# Altium schematic symbol library SWARMUS_LIB.SchLib: 70 symbols (part 1 of 2)
Pins are listed as number, name and electrical type; pins without a type are passive.

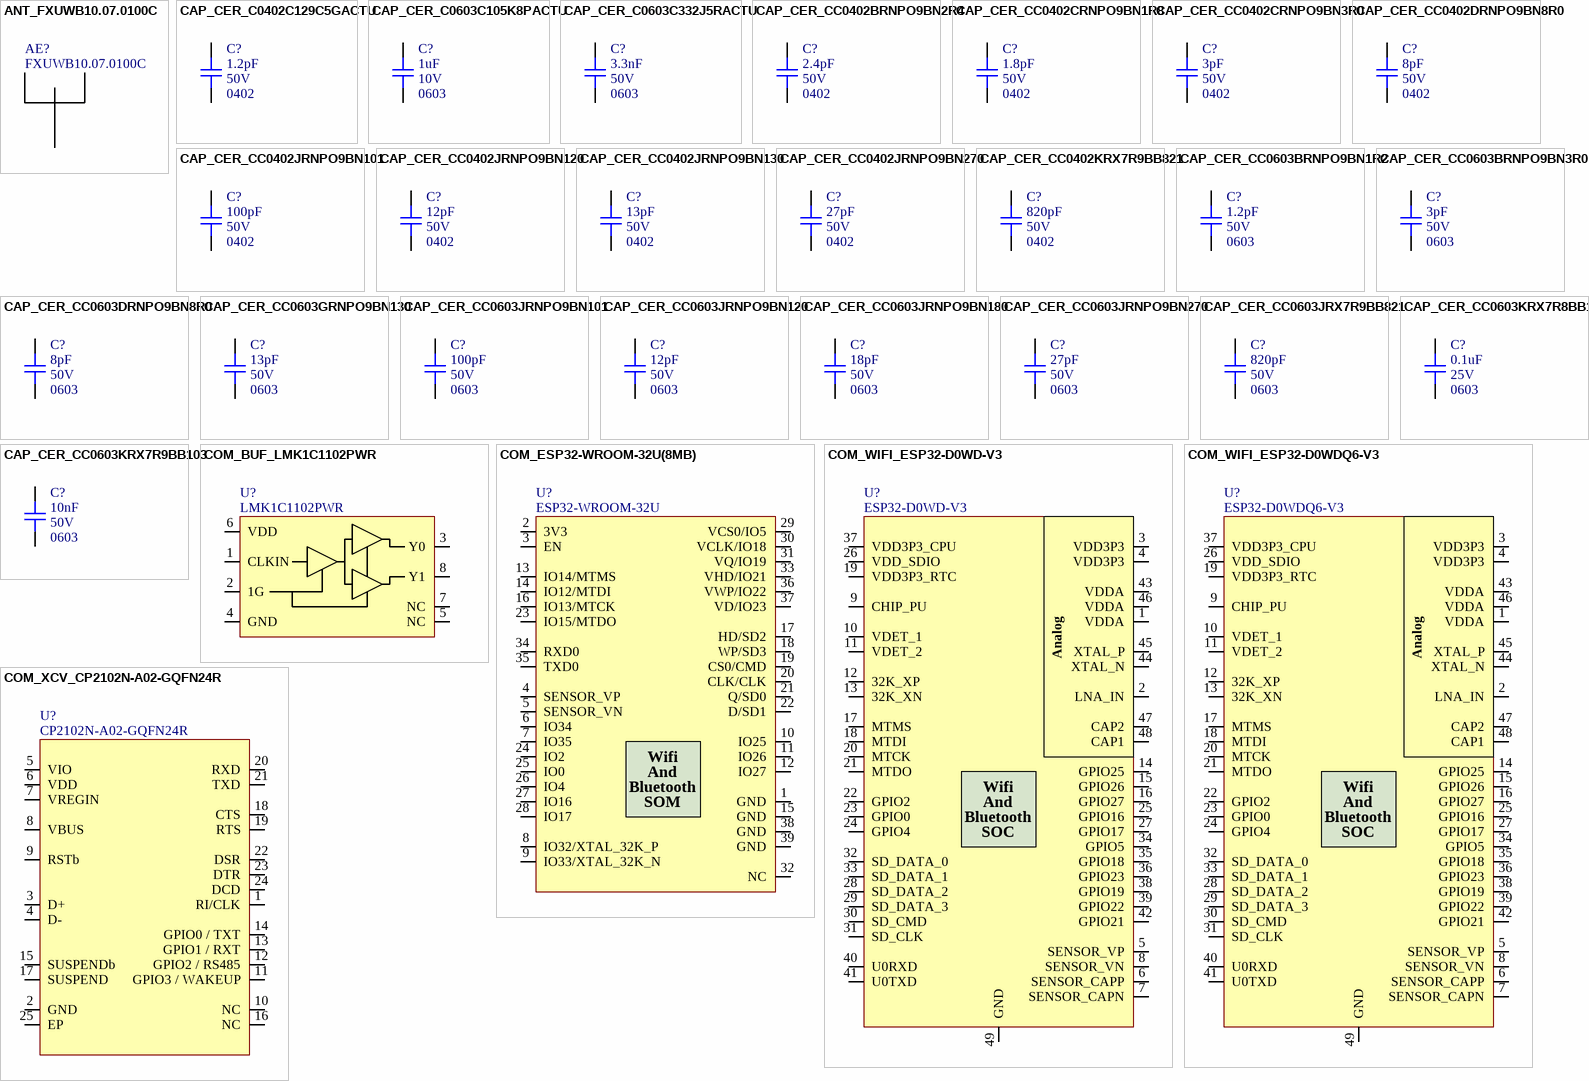
[diagram p0: symbols ANT_FXUWB10.07.0100C to COM_XCV_CP2102N-A02-GQFN24R]

## ANT_FXUWB10.07.0100C
designator AE?, comment FXUWB10.07.0100C
External antenna - UWB - UMCC plug; Value: 3.0-10.3GHz; GRAMS Lib Spec: 2.8; HelpURL: http://cdn.taoglas.com/datasheets/FXUWB10.07.0100C.pdf; CreatedBy/Date: Philippe Arsenault; Temperature: -40°C to 85°C; Package: 50 ohm; Assembly Type: UMCC plug; Part Number #1: FXUWB10.07.0100C; Supplier 1: Digi-Key; Supplier Part Number 1: 931-1523-ND

## CAP_CER_C0402C129C5GACTU
designator C?, comment value 1.2pF  Package: 0402  Voltage Rating: 50V  (hidden comment: C0402C129C5GACTU)
CAP - CER 1.2pF 50V ±0.25pF C0G, NP0 - 0402; Manufacturer #1: KEMET; GRAMS Lib Spec: 2.8; Magnetic Material: Unknown; Polarized: NO; Assembly Type: SMD; CreatedBy/Date: Philippe Arsenault/ 2020-07-24; Current Rating: *; HelpURL: https://content.kemet.com/datasheets/KEM_C1003_C0G_SMD.pdf; Manufacturer #2: *; Note: *; Part Number #1: C0402C129C5GACTU; Part Number #2: *; Power Max: *; Temperature: -55°C ~ 125°C; Tolerance: ±0.25pF; VerifiedBy: Louis-Daniel Gaulin / 2020-07-29; Cryo: UNKNOWN; Supplier 1: Digi-Key; Supplier Part Number 1: 399-1001-1-ND
footprint CAP_CER_0402 (Ceramic Capacitor - 0402)
pins: 1, 2

## CAP_CER_C0603C105K8PACTU
designator C?, comment value 1uF  Package: 0603  Voltage Rating: 10V  (hidden comment: C0603C105K8PACTU)
CAP - CER 1uF 10V 10% X5R - 0603; Manufacturer #1: KEMET; GRAMS Lib Spec: 2.8; Magnetic Material: Unknown; Polarized: NO; Tolerance: 10%; Current Rating: *; Power Max: *; HelpURL: https://content.kemet.com/datasheets/KEM_C1006_X5R_SMD.pdf; CreatedBy/Date: Hubert Dube - 21/07/20; VerifiedBy: Louis-Daniel Gaulin - 21/07/20; Temperature: -55°C ~ 85°C; Manufacturer #2: *; Assembly Type: SMD; Part Number #2: *; Part Number #1: C0603C105K8PACTU; Cryo: UNKNOWN; Supplier 1: Digi-Key; Supplier Part Number 1: 399-3118-1-ND
footprint CAP_CER_0603 (Ceramic Capacitor - 0603)
pins: 1, 2

## CAP_CER_C0603C332J5RACTU
designator C?, comment value 3.3nF  Package: 0603  Voltage Rating: 50V  (hidden comment: C0603C332J5RACTU)
CAP - CER 3.3nF 50V 5% X7R - 0603; Manufacturer #1: KEMET; GRAMS Lib Spec: 2.8; Magnetic Material: Unknown; Polarized: NO; Tolerance: 5%; Current Rating: *; Power Max: *; HelpURL: http://www.farnell.com/datasheets/2745899.pdf?src-supplier=Newark; CreatedBy/Date: Hubert Dube - 21/07/20; VerifiedBy: Louis-Daniel Gaulin - 21/07/20; Temperature: -55°C ~ 125°C; Manufacturer #2: *; Assembly Type: SMD; Part Number #2: *; Part Number #1: C0603C332J5RACTU; Cryo: UNKNOWN; Supplier 1: Digi-Key; Supplier Part Number 1: 399-7901-1-ND
footprint CAP_CER_0603 (Ceramic Capacitor - 0603)
pins: 1, 2

## CAP_CER_CC0402BRNPO9BN2R4
designator C?, comment value 2.4pF  Package: 0402  Voltage Rating: 50V  (hidden comment: CC0402BRNPO9BN2R4)
CAP - CER 2.4PF 50V C0G/NP0 - 0402; Manufacturer #1: Yageo; Tolerance: ±0.1pF; GRAMS Lib Spec: 2.8; Magnetic Material: Unknown; Polarized: NO; Current Rating: *; Power Max: *; HelpURL: https://www.yageo.com/upload/media/product/productsearch/datasheet/mlcc/UPY-GP_NP0_16V-to-50V_18.pdf; CreatedBy/Date: Hubert Dube - 04/10/20; VerifiedBy: Louis-Daniel Gaulin - 09/11/2020; Temperature: -55°C ~ 125°C; Manufacturer #2: *; Assembly Type: SMD; Part Number #2: *; Part Number #1: CC0402BRNPO9BN2R4; Cryo: UNKNOWN; Supplier 1: Digi-Key; Supplier Part Number 1: 311-3703-1-ND
footprint CAP_CER_0402 (Ceramic Capacitor - 0402)
pins: 1, 2

## CAP_CER_CC0402CRNPO9BN1R8
designator C?, comment value 1.8pF  Package: 0402  Voltage Rating: 50V  (hidden comment: CC0402CRNPO9BN1R8)
CAP - CER 1.8PF 50V C0G/NP0 - 0402; Manufacturer #1: Yageo; Tolerance: ±0.25pF; GRAMS Lib Spec: 2.8; Magnetic Material: Unknown; Polarized: NO; Current Rating: *; Power Max: *; HelpURL: https://www.yageo.com/upload/media/product/productsearch/datasheet/mlcc/UPY-GP_NP0_16V-to-50V_18.pdf; CreatedBy/Date: Hubert Dube - 04/10/20; VerifiedBy: Louis-Daniel Gaulin - 09/11/2020; Temperature: -55°C ~ 125°C; Manufacturer #2: *; Assembly Type: SMD; Part Number #2: *; Part Number #1: CC0402CRNPO9BN1R8; Cryo: UNKNOWN; Supplier 1: Digi-Key; Supplier Part Number 1: 311-1004-1-ND
footprint CAP_CER_0402 (Ceramic Capacitor - 0402)
pins: 1, 2

## CAP_CER_CC0402CRNPO9BN3R0
designator C?, comment value 3pF  Package: 0402  Voltage Rating: 50V  (hidden comment: CC0402CRNPO9BN3R0)
CAP - CER 3pF 50V ±0.25pF C0G, NP0 - 0402; Manufacturer #1: Yageo; GRAMS Lib Spec: 2.8; Magnetic Material: Unknown; Polarized: NO; Assembly Type: SMD; CreatedBy/Date: Philippe Arsenault/ 2020-07-24; Current Rating: *; HelpURL: https://www.yageo.com/upload/media/product/productsearch/datasheet/mlcc/UPY-GP_NP0_16V-to-50V_18.pdf; Manufacturer #2: *; Note: *; Part Number #1: CC0402CRNPO9BN3R0; Part Number #2: *; Power Max: *; Temperature: -55°C ~ 125°C; Tolerance: ±0.25pF; VerifiedBy: Louis-Daniel Gaulin / 2020-07-29; Cryo: UNKNOWN; Supplier 1: Digi-Key; Supplier Part Number 1: 311-1007-1-ND
footprint CAP_CER_0402 (Ceramic Capacitor - 0402)
pins: 1, 2

## CAP_CER_CC0402DRNPO9BN8R0
designator C?, comment value 8pF  Package: 0402  Voltage Rating: 50V  (hidden comment: CC0402DRNPO9BN8R0)
CAP - CER 8PF 50V C0G/NP0 - 0402; Manufacturer #1: Yageo; Tolerance: ±0.5pF; GRAMS Lib Spec: 2.8; Magnetic Material: Unknown; Polarized: NO; Current Rating: *; Power Max: *; HelpURL: https://www.yageo.com/upload/media/product/productsearch/datasheet/mlcc/UPY-GP_NP0_16V-to-50V_18.pdf; CreatedBy/Date: Hubert Dube - 04/10/20; VerifiedBy: Louis-Daniel Gaulin - 09/11/2020; Temperature: -55°C ~ 125°C; Manufacturer #2: *; Assembly Type: SMD; Part Number #2: *; Part Number #1: CC0402DRNPO9BN8R0; Cryo: UNKNOWN; Supplier 1: Digi-Key; Supplier Part Number 1: 311-1639-1-ND
footprint CAP_CER_0402 (Ceramic Capacitor - 0402)
pins: 1, 2

## CAP_CER_CC0402JRNPO9BN101
designator C?, comment value 100pF  Package: 0402  Voltage Rating: 50V  (hidden comment: CC0402JRNPO9BN101)
CAP - CER 100pF 50V ±5% C0G,CP0 - 0402; Manufacturer #1: Yageo; GRAMS Lib Spec: 2.8; Magnetic Material: Unknown; Polarized: NO; Assembly Type: SMD; CreatedBy/Date: Philippe Arsenault/ 2020-07-24; Current Rating: *; HelpURL: https://www.yageo.com/upload/media/product/productsearch/datasheet/mlcc/UPY-GPHC_X7R_6.3V-to-50V_18.pdf; Manufacturer #2: *; Note: *; Part Number #1: CC0402JRNPO9BN101; Part Number #2: *; Power Max: *; Temperature: -55°C ~ 125°C; Tolerance: ±5%; VerifiedBy: Louis-Daniel Gaulin / 2020-07-29; Cryo: UNKNOWN; Supplier 1: Digi-Key; Supplier Part Number 1: 311-1024-1-ND
footprint CAP_CER_0402 (Ceramic Capacitor - 0402)
pins: 1, 2

## CAP_CER_CC0402JRNPO9BN120
designator C?, comment value 12pF  Package: 0402  Voltage Rating: 50V  (hidden comment: CC0402JRNPO9BN120)
CAP - CER 12pF 50V ±5% C0G, NP0 - 0402; Manufacturer #1: Yageo; GRAMS Lib Spec: 2.8; Magnetic Material: Unknown; Polarized: NO; Assembly Type: SMD; CreatedBy/Date: Philippe Arsenault/ 2020-07-24; Current Rating: *; HelpURL: https://www.yageo.com/upload/media/product/productsearch/datasheet/mlcc/UPY-GP_NP0_16V-to-50V_18.pdf; Manufacturer #2: *; Note: *; Part Number #1: CC0402JRNPO9BN120; Part Number #2: *; Power Max: *; Temperature: -55°C ~ 125°C; Tolerance: ±5%; VerifiedBy: Louis-Daniel Gaulin / 2020-07-29; Cryo: UNKNOWN; Supplier 1: Digi-Key; Supplier Part Number 1: 311-1016-1-ND
footprint CAP_CER_0402 (Ceramic Capacitor - 0402)
pins: 1, 2

## CAP_CER_CC0402JRNPO9BN130
designator C?, comment value 13pF  Package: 0402  Voltage Rating: 50V  (hidden comment: CC0402JRNPO9BN130)
CAP - CER 13PF 50V C0G/NP0 - 0402; Manufacturer #1: Yageo; Tolerance: ±5%; GRAMS Lib Spec: 2.8; Magnetic Material: Unknown; Polarized: NO; Current Rating: *; Power Max: *; HelpURL: https://www.yageo.com/upload/media/product/productsearch/datasheet/mlcc/UPY-GP_NP0_16V-to-50V_18.pdf; CreatedBy/Date: Hubert Dube - 04/10/20; VerifiedBy: Louis-Daniel Gaulin - 09/11/2020; Temperature: -55°C ~ 125°C; Manufacturer #2: *; Assembly Type: SMD; Part Number #2: *; Part Number #1: CC0402JRNPO9BN130; Cryo: UNKNOWN; Supplier 1: Digi-Key; Supplier Part Number 1: 311-3754-1-ND
footprint CAP_CER_0402 (Ceramic Capacitor - 0402)
pins: 1, 2

## CAP_CER_CC0402JRNPO9BN270
designator C?, comment value 27pF  Package: 0402  Voltage Rating: 50V  (hidden comment: CC0402JRNPO9BN270)
CAP - CER 27pF 50V ±5% C0G, NP0 - 0402; Manufacturer #1: Yageo; GRAMS Lib Spec: 2.8; Magnetic Material: Unknown; Polarized: NO; Assembly Type: SMD; CreatedBy/Date: Philippe Arsenault/ 2020-07-24; Current Rating: *; HelpURL: https://www.yageo.com/upload/media/product/productsearch/datasheet/mlcc/UPY-GP_NP0_16V-to-50V_18.pdf; Manufacturer #2: *; Note: *; Part Number #1: CC0402JRNPO9BN270; Part Number #2: *; Power Max: *; Temperature: -55°C ~ 125°C; Tolerance: ±5%; VerifiedBy: Louis-Daniel Gaulin / 2020-07-29; Cryo: UNKNOWN; Supplier 1: Digi-Key; Supplier Part Number 1: 311-1019-1-ND
footprint CAP_CER_0402 (Ceramic Capacitor - 0402)
pins: 1, 2

## CAP_CER_CC0402KRX7R9BB821
designator C?, comment value 820pF  Package: 0402  Voltage Rating: 50V  (hidden comment: CC0402KRX7R9BB821)
CAP - CER 820pF 50V ±10% X7R - 0402; Manufacturer #1: Yageo; GRAMS Lib Spec: 2.8; Magnetic Material: Unknown; Polarized: NO; Assembly Type: SMD; CreatedBy/Date: Philippe Arsenault/ 2020-07-24; Current Rating: *; HelpURL: https://www.yageo.com/upload/media/product/productsearch/datasheet/mlcc/UPY-GPHC_X7R_6.3V-to-50V_18.pdf; Manufacturer #2: *; Note: *; Part Number #1: CC0402KRX7R9BB821; Part Number #2: *; Power Max: *; Temperature: -55°C ~ 125°C; Tolerance: ±10%; VerifiedBy: Louis-Daniel Gaulin / 2020-07-29; Cryo: UNKNOWN; Supplier 1: Digi-Key; Supplier Part Number 1: 311-1727-1-ND
footprint CAP_CER_0402 (Ceramic Capacitor - 0402)
pins: 1, 2

## CAP_CER_CC0603BRNPO9BN1R2
designator C?, comment value 1.2pF  Package: 0603  Voltage Rating: 50V  (hidden comment: CC0603BRNPO9BN1R2)
CAP - CER 1.2pF 50V ±0.1pF C0G/NP0 - 0603; Manufacturer #1: Yageo; GRAMS Lib Spec: 2.8; Magnetic Material: UNKNOWN; Polarized: NO; Tolerance: ±0.1pF; Current Rating: *; Power Max: *; HelpURL: https://www.yageo.com/upload/media/product/productsearch/datasheet/mlcc/UPY-GP_NP0_16V-to-50V_18.pdf; CreatedBy/Date: Philippe Arsenault/2020-07-21; VerifiedBy: Louis-Daniel Gaulin / 2020-07-23; Temperature: -55°C ~ 125°C; Manufacturer #2: *; Note: *; Assembly Type: SMD; Part Number #2: *; Part Number #1: CC0603BRNPO9BN1R2; Cryo: UNKNOWN; Supplier 1: Digi-Key; Supplier Part Number 1: 311-3825-1-ND
footprint CAP_CER_0603 (Ceramic Capacitor - 0603)
pins: 1, 2

## CAP_CER_CC0603BRNPO9BN3R0
designator C?, comment value 3pF  Package: 0603  Voltage Rating: 50V  (hidden comment: CC0603BRNPO9BN3R0)
CAP - CER 3pF 50V ±0.1pF C0G/NP0 - 0603; Manufacturer #1: Yageo; GRAMS Lib Spec: 2.8; Magnetic Material: UNKNOWN; Polarized: NO; Tolerance: ±0.1pF; Current Rating: *; Power Max: *; HelpURL: https://www.yageo.com/upload/media/product/productsearch/datasheet/mlcc/UPY-GP_NP0_16V-to-50V_18.pdf; CreatedBy/Date: Philippe Arsenault/2020-07-21; VerifiedBy: Louis-Daniel Gaulin / 2020-07-22; Temperature: -55°C ~ 125°C; Manufacturer #2: *; Note: *; Assembly Type: SMD; Part Number #2: *; Part Number #1: CC0603BRNPO9BN3R0; Cryo: UNKNOWN; Supplier 1: Digi-Key; Supplier Part Number 1: 311-3831-1-ND
footprint CAP_CER_0603 (Ceramic Capacitor - 0603)
pins: 1, 2

## CAP_CER_CC0603DRNPO9BN8R0
designator C?, comment value 8pF  Package: 0603  Voltage Rating: 50V  (hidden comment: CC0603DRNPO9BN8R0)
CAP - CER 8pF 50V ±0.5pF C0G/NP0 - 0603; Manufacturer #1: Yageo; Tolerance: ±0.5pF (6.25%); GRAMS Lib Spec: 2.8; Magnetic Material: Unknown; Polarized: NO; Current Rating: *; Power Max: *; HelpURL: https://www.yageo.com/upload/media/product/productsearch/datasheet/mlcc/UPY-GP_NP0_16V-to-50V_18.pdf; CreatedBy/Date: Hubert Dube - 21/07/20; VerifiedBy: Louis-Daniel Gaulin / 2020-07-22; Temperature: -55°C ~ 125°C; Manufacturer #2: *; Assembly Type: SMD; Part Number #2: *; Part Number #1: CC0603DRNPO9BN8R0; Cryo: UNKNOWN; Supplier 1: Digi-Key; Supplier Part Number 1: 311-1057-1-ND
footprint CAP_CER_0603 (Ceramic Capacitor - 0603)
pins: 1, 2

## CAP_CER_CC0603GRNPO9BN130
designator C?, comment value 13pF  Package: 0603  Voltage Rating: 50V  (hidden comment: CC0603GRNPO9BN130)
CAP - CER 13pF 50V 2% C0G/NP0 - 0603; Manufacturer #1: Yageo; GRAMS Lib Spec: 2.8; Magnetic Material: Unknown; Polarized: NO; Tolerance: 2%; Current Rating: *; Power Max: *; HelpURL: https://www.yageo.com/upload/media/product/productsearch/datasheet/mlcc/UPY-GP_NP0_16V-to-50V_18.pdf; CreatedBy/Date: Hubert Dube - 21/07/20; VerifiedBy: Louis-Daniel Gaulin / 2020-07-22; Temperature: -55°C ~ 125°C; Manufacturer #2: *; Assembly Type: SMD; Part Number #2: *; Part Number #1: CC0603GRNPO9BN130; Cryo: UNKNOWN; Supplier 1: Digi-Key; Supplier Part Number 1: 311-3919-1-ND
footprint CAP_CER_0603 (Ceramic Capacitor - 0603)
pins: 1, 2

## CAP_CER_CC0603JRNPO9BN101
designator C?, comment value 100pF  Package: 0603  Voltage Rating: 50V  (hidden comment: CC0603JRNPO9BN101)
CAP - CER 100pF 50V 5% C0G/NP0 - 0603; Manufacturer #1: Yageo; GRAMS Lib Spec: 2.8; Magnetic Material: Unknown; Polarized: NO; Tolerance: 5%; Current Rating: *; Power Max: *; HelpURL: https://www.yageo.com/upload/media/product/productsearch/datasheet/mlcc/UPY-GP_NP0_16V-to-50V_18.pdf; CreatedBy/Date: Hubert Dube - 21/07/20; VerifiedBy: Louis-Daniel Gaulin - 21/07/20; Temperature: -55°C ~ 125°C; Manufacturer #2: *; Assembly Type: SMD; Part Number #2: *; Part Number #1: CC0603JRNPO9BN101; Cryo: UNKNOWN; Supplier 1: Digi-Key; Supplier Part Number 1: 311-1069-1-ND
footprint CAP_CER_0603 (Ceramic Capacitor - 0603)
pins: 1, 2

## CAP_CER_CC0603JRNPO9BN120
designator C?, comment value 12pF  Package: 0603  Voltage Rating: 50V  (hidden comment: CC0603JRNPO9BN120)
CAP - CER 12pF 50V 5% C0G/NP0 - 0603; Manufacturer #1: Yageo; GRAMS Lib Spec: 2.8; Magnetic Material: Unknown; Polarized: No; Tolerance: 5%; Current Rating: *; Power Max: *; HelpURL: https://www.yageo.com/upload/media/product/productsearch/datasheet/mlcc/UPY-GP_NP0_16V-to-50V_18.pdf; CreatedBy/Date: Philippe Arsenault/2020-07-22; VerifiedBy: Louis-Daniel Gaulin / 2020-07-23; Temperature: -55°C ~ 125°C; Manufacturer #2: *; Note: *; Assembly Type: SMD; Part Number #2: *; Part Number #1: CC0603JRNPO9BN120; Cryo: Unknown; Supplier 1: Digi-Key; Supplier Part Number 1: 311-1059-1-ND
footprint CAP_CER_0603 (Ceramic Capacitor - 0603)
pins: 1, 2

## CAP_CER_CC0603JRNPO9BN180
designator C?, comment value 18pF  Package: 0603  Voltage Rating: 50V  (hidden comment: CC0603JRNPO9BN180)
CAP - CER 18pF 50V 5% C0G/NP0 - 0603; Manufacturer #1: Yageo; GRAMS Lib Spec: 2.8; Magnetic Material: Unknown; Polarized: No; Tolerance: 5%; Current Rating: *; Power Max: *; HelpURL: https://www.yageo.com/upload/media/product/productsearch/datasheet/mlcc/UPY-GP_NP0_16V-to-50V_18.pdf; CreatedBy/Date: Philippe Arsenault/2020-07-22; VerifiedBy: Louis-Daniel Gaulin / 2020-07-23; Temperature: -55°C ~ 125°C; Manufacturer #2: *; Note: *; Assembly Type: SMD; Part Number #2: *; Part Number #1: CC0603JRNPO9BN180; Cryo: Unknown; Supplier 1: Digi-Key; Supplier Part Number 1: 311-1061-1-ND
footprint CAP_CER_0603 (Ceramic Capacitor - 0603)
pins: 1, 2

## CAP_CER_CC0603JRNPO9BN270
designator C?, comment value 27pF  Package: 0603  Voltage Rating: 50V  (hidden comment: CC0603JRNPO9BN270)
CAP - CER 27pF 50V 5% C0G/NP0 - 0603; Manufacturer #1: Yageo; GRAMS Lib Spec: 2.8; Magnetic Material: Unknown; Polarized: No; Tolerance: 5%; Current Rating: *; Power Max: *; HelpURL: https://www.yageo.com/upload/media/product/productsearch/datasheet/mlcc/UPY-GP_NP0_16V-to-50V_18.pdf; CreatedBy/Date: Philippe Arsenault/2020-07-22; VerifiedBy: Louis-Daniel Gaulin / 2020-07-23; Temperature: -55°C ~ 125°C; Manufacturer #2: *; Note: *; Assembly Type: SMD; Part Number #2: *; Part Number #1: CC0603JRNPO9BN270; Cryo: Unknown; Supplier 1: Digi-Key; Supplier Part Number 1: 311-1063-1-ND
footprint CAP_CER_0603 (Ceramic Capacitor - 0603)
pins: 1, 2

## CAP_CER_CC0603JRX7R9BB821
designator C?, comment value 820pF  Package: 0603  Voltage Rating: 50V  (hidden comment: CC0603JRX7R9BB821)
CAP - CER 820pF 50V 5% X7R  - 0603; Manufacturer #1: Yageo; GRAMS Lib Spec: 2.8; Magnetic Material: Unknown; Polarized: No; Tolerance: 5%; Current Rating: *; Power Max: *; HelpURL: https://www.yageo.com/upload/media/product/productsearch/datasheet/mlcc/UPY-GPHC_X7R_6.3V-to-50V_18.pdf; CreatedBy/Date: Philippe Arsenault/2020-07-22; VerifiedBy: Louis-Daniel Gaulin / 2020-07-23; Temperature: -55°C ~ 125°C; Manufacturer #2: *; Note: *; Assembly Type: SMD; Part Number #2: *; Part Number #1: CC0603JRX7R9BB821; Cryo: Unknown; Supplier 1: Digi-Key; Supplier Part Number 1: 311-4023-1-ND
footprint CAP_CER_0603 (Ceramic Capacitor - 0603)
pins: 1, 2

## CAP_CER_CC0603KRX7R8BB104
designator C?, comment value 0.1uF  Package: 0603  Voltage Rating: 25V  (hidden comment: CC0603KRX7R8BB104)
CAP - CER 0.1uF 25V 10% X7R - 0603; Manufacturer #1: Yageo; GRAMS Lib Spec: 2.8; Magnetic Material: Unknown; Polarized: NO; Tolerance: 10%; Current Rating: *; Power Max: *; HelpURL: https://www.yageo.com/upload/media/product/productsearch/datasheet/mlcc/UPY-GPHC_X7R_6.3V-to-50V_18.pdf; CreatedBy/Date: Hubert Dube - 21/07/20; VerifiedBy: Louis-Daniel Gaulin - 21/07/20; Temperature: -55°C ~ 125°C; Manufacturer #2: *; Assembly Type: SMD; Part Number #2: *; Part Number #1: CC0603KRX7R8BB104; Cryo: UNKNOWN; Supplier 1: Digi-Key; Supplier Part Number 1: 311-1341-2-ND
footprint CAP_CER_0603 (Ceramic Capacitor - 0603)
pins: 1, 2

## CAP_CER_CC0603KRX7R9BB103
designator C?, comment value 10nF  Package: 0603  Voltage Rating: 50V  (hidden comment: CC0603KRX7R9BB103)
CAP - CER 10nF 50V 10% X7R - 0603; Manufacturer #1: Yageo; GRAMS Lib Spec: 2.8; Magnetic Material: Unknown; Polarized: NO; Tolerance: 10%; Current Rating: *; Power Max: *; HelpURL: https://www.yageo.com/upload/media/product/productsearch/datasheet/mlcc/UPY-GPHC_X7R_6.3V-to-50V_18.pdf; CreatedBy/Date: Hubert Dube - 21/07/20; VerifiedBy: Louis-Daniel Gaulin - 21/07/20; Temperature: -55°C ~ 125°C; Manufacturer #2: *; Assembly Type: SMD; Part Number #2: *; Part Number #1: CC0603KRX7R9BB103; Cryo: UNKNOWN; Supplier 1: Digi-Key; Supplier Part Number 1: 311-1085-1-ND
footprint CAP_CER_0603 (Ceramic Capacitor - 0603)
pins: 1, 2

## COM_BUF_LMK1C1102PWR
designator U?, comment LMK1C1102PWR
COM - BUF - Clock buffer 3V3, 2V5, 1V8 2 Channel - TSSOP 8; Manufacturer #1: Texas Instruments; Voltage Rating: 1.71V ~ 1.89V, 2.375V ~ 2.625V, 3.135V ~ 3.465V; Current Rating: Input +-20mA ; Output +- 50mA; Power Max: 132mW; GRAMS Lib Spec: 2.8; Magnetic Material: Unknown; Polarized: Yes; Cryo: No; Value: *; Tolerance: *; HelpURL: https://www.ti.com/lit/ds/symlink/lmk1c1102.pdf?ts=1595262014854&ref_url=https%253A%252F%252Fwww.ti.com%252Fproduct%252FLMK1C1102%253Futm_source%253Dgoogle%2526utm_medium%253Dcpc%2526utm_campaign%253Dasc-null-null-GPN_EN-cpc-pf-google-wwe%2526utm_content%253DLMK1C1102%2526ds_k%253DLMK1C1102%2526DCM%253Dyes%2526gclid%253DCjwKCAjwgdX4BRB_EiwAg8O8HUIvo-ksMfq8YInqTklLXWuMoCGXxsnhq04Fqr4kdDFQPSc0fYG9iRoCPvAQAvD_BwE%2526gclsrc%253Daw.ds; CreatedBy/Date: Philippe Arsenault/20-07-2020; VerifiedBy: Louis-Daniel Gaulin / 23-07-2020; Temperature: –40°C to 125°C; Package: TSSOP 8 pin; Note: *; Assembly Type: SMT; Part Number #2: *; Part Number #1: LMK1C1102PWR
footprint COM_BUF_LMK1C1102PWR (TSOP, 8-Leads, Body 3,00x4,40mm, Pitch 0,65mm, IPC Medium Density)
pins: 1 CLKIN, 2 1G, 3 Y0, 4 GND, 5 NC, 6 VDD, 7 NC, 8 Y1

## COM_ESP32-WROOM-32U(8MB)
designator U?, comment ESP32-WROOM-32U
Bluetooth, WiFi 802.11b/g/n, Bluetooth v4.2  2.4GHz ~ 2.5GHz U.FL Surface Mount; Manufacturer #1: Espressif Systems; Part Number #1: 1904-1027-1-ND; Voltage Rating: -0.3 to 3.6V; Current Rating: 1100mA; Power Max: 3.96W; GRAMS Lib Spec: 2.7; Note: Antenna not included; Magnetic Material: Unknown; Polarized: Yes; Value: *; Tolerance: *; HelpURL: https://www.espressif.com/sites/default/files/documentation/esp32-wroom-32d_esp32-wroom-32u_datasheet_en.pdf; VerifiedBy: Philippe Arsenault - 15/12/2020; Temperature: -40~150C; Package: 38-SMD MODULE; Manufacturer #2: *; Assembly Type: SMD; Part Number #2: *; CreatedBy/Date: Hubert Dube -  12/12/20; Supplier 1: Digi-Key; Supplier Part Number 1: 1904-1027-1-ND
pins: 1 GND, 2 3V3, 3 EN, 4 SENSOR_VP, 5 SENSOR_VN, 6 IO34, 7 IO35, 8 IO32/XTAL_32K_P, 9 IO33/XTAL_32K_N, 10 IO25, 11 IO26, 12 IO27, 13 IO14/MTMS, 14 IO12/MTDI, 15 GND, 16 IO13/MTCK, 17 HD/SD2, 18 WP/SD3, 19 CS0/CMD, 20 CLK/CLK, 21 Q/SD0, 22 D/SD1, 23 IO15/MTDO, 24 IO2, 25 IO0, 26 IO4, 27 IO16, 28 IO17, 29 VCS0/IO5, 30 VCLK/IO18, 31 VQ/IO19, 32 NC, 33 VHD/IO21, 34 RXD0, 35 TXD0, 36 VWP/IO22, 37 VD/IO23, 38 GND, 39 GND
text: Wifi; And; Bluetooth; SOM

## COM_WIFI_ESP32-D0WD-V3
designator U?, comment ESP32-D0WD-V3
COM_WIFI - IC RF TxRx + MCU, WiFi 802.11b/g/n, Bluetooth 4.2 2.4GHz - 48-VFQFN Exposed Pad; Manufacturer #1: Espressif Systems; Voltage Rating: 2.3-3.63; Current Rating: Rx 100mA/Tx 240mA; Power Max: 900mW; GRAMS Lib Spec: 2.8; Magnetic Material: Unknown; Polarized: Yes; Cryo: No; Value: *; Tolerance: *; HelpURL: https://www.espressif.com/sites/default/files/documentation/esp32_datasheet_en.pdf; CreatedBy/Date: Hubert Dube/14-07-2020; Temperature: -40°C ~ 125°C; Package: VFQFN 48; Manufacturer #2: *; Note: *; Assembly Type: SMD; Part Number #2: *; Part Number #1: ESP32-D0WD-V3; Supplier 1: Digi-Key; Supplier Part Number 1: 1904-ESP32-D0WD-V3CT-ND
footprint COM_WIFI_ESP32-D0WD-V3
pins: 1 VDDA, 2 LNA_IN, 3 VDD3P3, 4 VDD3P3, 5 SENSOR_VP, 6 SENSOR_CAPP, 7 SENSOR_CAPN, 8 SENSOR_VN, 9 CHIP_PU, 10 VDET_1, 11 VDET_2, 12 32K_XP, 13 32K_XN, 14 GPIO25, 15 GPIO26, 16 GPIO27, 17 MTMS, 18 MTDI, 19 VDD3P3_RTC, 20 MTCK, 21 MTDO, 22 GPIO2, 23 GPIO0, 24 GPIO4, 25 GPIO16, 26 VDD_SDIO, 27 GPIO17, 28 SD_DATA_2, 29 SD_DATA_3, 30 SD_CMD, 31 SD_CLK, 32 SD_DATA_0, 33 SD_DATA_1, 34 GPIO5, 35 GPIO18, 36 GPIO23, 37 VDD3P3_CPU, 38 GPIO19, 39 GPIO22, 40 U0RXD, 41 U0TXD, 42 GPIO21, 43 VDDA, 44 XTAL_N, 45 XTAL_P, 46 VDDA, 47 CAP2, 48 CAP1, 49 GND
text: Analog; Wifi; And; Bluetooth; SOC

## COM_WIFI_ESP32-D0WDQ6-V3
designator U?, comment ESP32-D0WDQ6-V3
COM_WIFI - IC RF TxRx + MCU, WiFi 802.11b/g/n, Bluetooth 4.2 2.4GHz - 48-VFQFN Exposed Pad; Manufacturer #1: Espressif Systems; Voltage Rating: 2.3-3.63; Current Rating: Rx 100mA/Tx 240mA; Power Max: 900mW; GRAMS Lib Spec: 2.8; Magnetic Material: Unknown; Polarized: Yes; Cryo: No; Value: *; Tolerance: *; HelpURL: https://www.espressif.com/sites/default/files/documentation/esp32_datasheet_en.pdf; CreatedBy/Date: Louis-Daniel Gaulin / 10-12-2020; VerifiedBy: Hubert Dube - 14/12/2020; Temperature: -40°C ~ 125°C; Package: 48-VFQFN 6x6; Manufacturer #2: *; Note: *; Assembly Type: SMD; Part Number #2: *; Part Number #1: ESP32-D0WDQ6-V3; Supplier 1: Digi-Key; Supplier Part Number 1: 1904-ESP32-D0WDQ6-V3CT-ND
footprint COM_WIFI_ESP32-D0WDQ6-V3
pins: 1 VDDA, 2 LNA_IN, 3 VDD3P3, 4 VDD3P3, 5 SENSOR_VP, 6 SENSOR_CAPP, 7 SENSOR_CAPN, 8 SENSOR_VN, 9 CHIP_PU, 10 VDET_1, 11 VDET_2, 12 32K_XP, 13 32K_XN, 14 GPIO25, 15 GPIO26, 16 GPIO27, 17 MTMS, 18 MTDI, 19 VDD3P3_RTC, 20 MTCK, 21 MTDO, 22 GPIO2, 23 GPIO0, 24 GPIO4, 25 GPIO16, 26 VDD_SDIO, 27 GPIO17, 28 SD_DATA_2, 29 SD_DATA_3, 30 SD_CMD, 31 SD_CLK, 32 SD_DATA_0, 33 SD_DATA_1, 34 GPIO5, 35 GPIO18, 36 GPIO23, 37 VDD3P3_CPU, 38 GPIO19, 39 GPIO22, 40 U0RXD, 41 U0TXD, 42 GPIO21, 43 VDDA, 44 XTAL_N, 45 XTAL_P, 46 VDDA, 47 CAP2, 48 CAP1, 49 GND
text: Analog; Wifi; And; Bluetooth; SOC

## COM_XCV_CP2102N-A02-GQFN24R
designator U?, comment CP2102N-A02-GQFN24R
COM_XCV - IC USB TO UART BRIDGE - 24-QFN (4x4); Manufacturer #1: Silicon Labs; Voltage Rating: 3V ~ 3.6V; Current Rating: 9.5mA; Power Max: 35mW; GRAMS Lib Spec: 2.8c; Magnetic Material: Unknown; Polarized: YES; Value: -; Tolerance: -; HelpURL: https://www.silabs.com/documents/public/data-sheets/cp2102n-datasheet.pdf; CreatedBy/Date: Louis-Daniel Gaulin / 06-10-2020; VerifiedBy: Philippe Arsenault/2020-11-06; Temperature: -40°C ~ 85°C (TA); Package: 24-QFN (4x4); Manufacturer #2: -; Note: -; Assembly Type: SMD; Part Number #2: -; Part Number #1: CP2102N-A02-GQFN24R; Supplier 1: Digi-Key; Supplier Part Number 1: 336-5888-1-ND
footprint COM_XCV_CP2102N-A02-GQFN24R (QFN, 24-Leads, Body 4.00x4.00mm, Pitch 0.50mm, Thermal Pad 2.55x2.55mm, IPC Medium Density)
pins: 1 RI/CLK, 2 GND, 3 D+, 4 D-, 5 VIO, 6 VDD, 7 VREGIN, 8 VBUS, 9 RSTb, 10 NC, 11 GPIO3 / WAKEUP, 12 GPIO2 / RS485, 13 GPIO1 / RXT, 14 GPIO0 / TXT, 15 SUSPENDb, 16 NC, 17 SUSPEND, 18 CTS, 19 RTS, 20 RXD, 21 TXD, 22 DSR, 23 DTR, 24 DCD, 25 EP

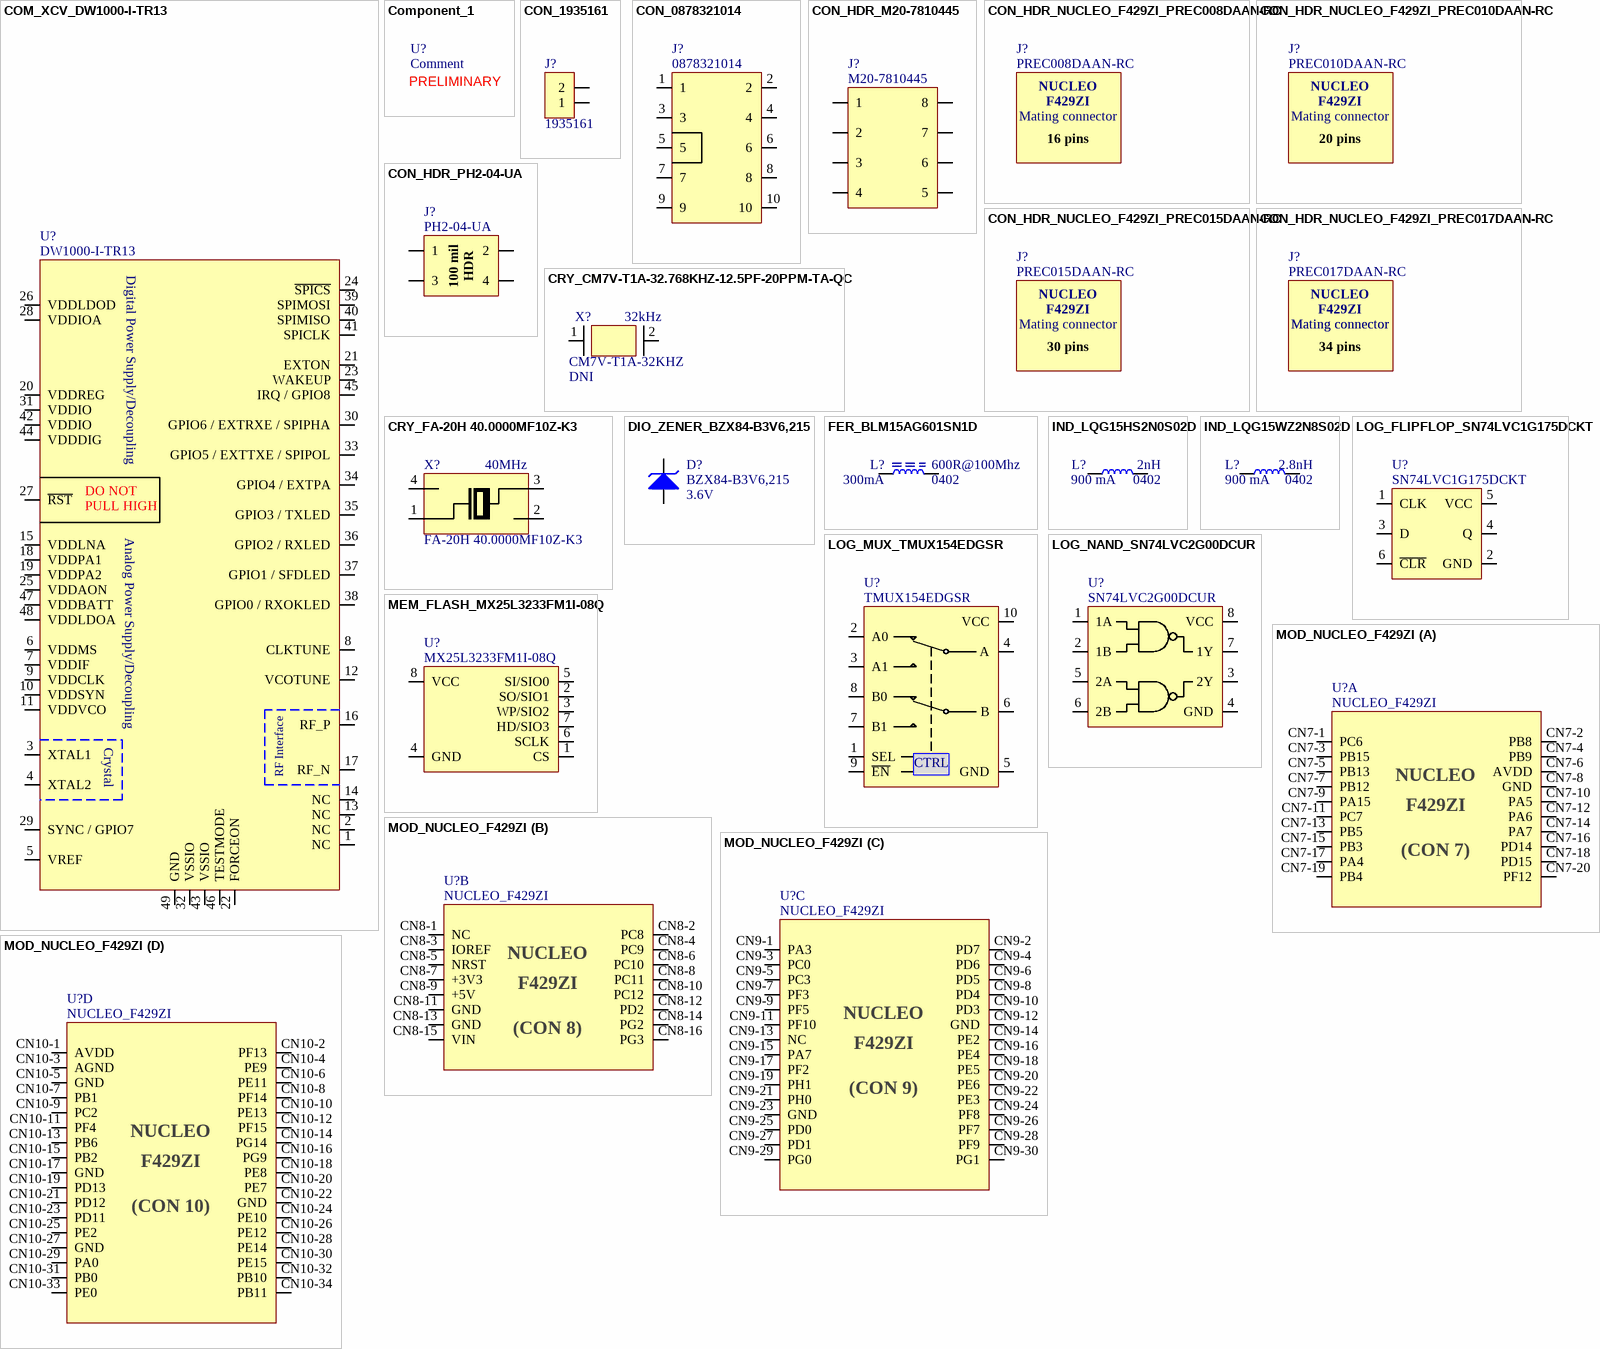
[diagram p1: symbols COM_XCV_DW1000-I-TR13 to MOD_NUCLEO_F429ZI]

## COM_XCV_DW1000-I-TR13
designator U?, comment DW1000-I-TR13
COM - IC RF TxRx 802.15.4 IR-UWB DECAWAVE - 48-VFQFN EP; Voltage Rating: 2.8 - 3.6 V; Current Rating: Rx 64mA/Tx 31mA; GRAMS Lib Spec: 2.8; Magnetic Material: Unknown; Polarized: Yes; Cryo: No; Value: *; Tolerance: *; Power Max: *; HelpURL: https://www.decawave.com/sites/default/files/resources/DW1000-Datasheet-V2.12.pdf; CreatedBy/Date: Philippe Arsenault/13-07-2020; Temperature: -40°C ~ 85°C; Package: QFN 48; Manufacturer #1: Decawave; Manufacturer #2: Qorvo; Note: *; Assembly Type: SMT; Part Number #2: *; Part Number #1: DW1000-I-TR13; Supplier 1: Digi-Key; Supplier Part Number 1: 1479-1001-1-ND
footprint COM_XCV_DW1000-I-TR13 (QFN 48 package, 0.5mm pitch)
pins: 1 NC, 2 NC, 3 XTAL1, 4 XTAL2, 5 VREF, 6 VDDMS, 7 VDDIF, 8 CLKTUNE, 9 VDDCLK, 10 VDDSYN, 11 VDDVCO, 12 VCOTUNE, 13 NC, 14 NC, 15 VDDLNA, 16 RF_P, 17 RF_N, 18 VDDPA1, 19 VDDPA2, 20 VDDREG, 21 EXTON, 22 FORCEON, 23 WAKEUP, 24 ~{SPICS}, 25 VDDAON, 26 VDDLDOD, 27 ~{RST}, 28 VDDIOA, 29 SYNC / GPIO7, 30 GPIO6 / EXTRXE / SPIPHA, 31 VDDIO, 32 VSSIO, 33 GPIO5 / EXTTXE / SPIPOL, 34 GPIO4 / EXTPA, 35 GPIO3 / TXLED, 36 GPIO2 / RXLED, 37 GPIO1 / SFDLED, 38 GPIO0 / RXOKLED, 39 SPIMOSI, 40 SPIMISO, 41 SPICLK, 42 VDDIO, 43 VSSIO, 44 VDDDIG, 45 IRQ / GPIO8, 46 TESTMODE, 47 VDDBATT, 48 VDDLDOA, 49 GND
text: Digital Power Supply/Decoupling; DO NOT; PULL HIGH; Analog Power Supply/Decoupling; Crystal; RF Interface

## Component_1
designator U?, comment Comment
XXX - Description - Package; GRAMS Lib Spec: 2.7
text: PRELIMINARY

## CON_1935161
designator J?, comment 1935161
CON - TERM BLK 2POS SIDE ENTRY 5MM PCB - TH - 14-26 AWG; Manufacturer #1: Phoenix Contact; Current Rating: 17.5A; Magnetic Material: Unknown; Polarized: Yes; Voltage Rating: 400V; GRAMS Lib Spec: 2.8; Assembly Type: TH; Manufacturer #2: *; Note: *; Part Number #1: 1935161; Part Number #2: *; Package: TH; Power Max: *; Value: *; Temperature: -40 °C ~ 100 °C; HelpURL: https://media.digikey.com/pdf/Data%20Sheets/Phoenix%20Contact%20PDFs/1935161.pdf; CreatedBy/Date: Louis-Daniel Gaulin / 02-11-2020; Supplier 1: Digi-Key; Supplier Part Number 1: 277-1667-ND; Tolerance: *; VerifiedBy: Philippe Arsenault/2020-11-06; Cryo: UNKNOWN
footprint CON_ 1935161
pins: 1, 2

## CON_0878321014
designator J?, comment 0878321014
CON - HEADER SMD 10POS 2mm - SMD; Manufacturer #1: Molex; GRAMS Lib Spec: 2.8; Magnetic Material: Unknown; Polarized: YES; Value: *; Tolerance: *; Voltage Rating: *; Current Rating: *; Power Max: *; HelpURL: https://www.molex.com/webdocs/datasheets/pdf/en-us/0878321014_PCB_HEADERS.pdf; CreatedBy/Date: Hubert Dube - 8/10/2020; VerifiedBy: Louis-Daniel Gaulin / 12-11-2020; Temperature: -55°C ~ 105 °C; Package: SMD; Manufacturer #2: *; Assembly Type: SMD; Part Number #2: *; Part Number #1: 0878321014; Cryo: UNKNOWN; Supplier 1: Digi-Key; Supplier Part Number 1: WM14376CT-ND
footprint CON_0878321014
pins: 1, 2, 3, 4, 5, 6, 7, 8, 9, 10

## CON_HDR_M20-7810445
designator J?, comment M20-7810445
CONN RCPT 8POS 0.1 GOLD SMD; Manufacturer #1: Harwin Inc.; GRAMS Lib Spec: 2.8; Magnetic Material: Unknown; Polarized: NO; Value: *; Tolerance: *; Voltage Rating: *; Current Rating: *; Power Max: *; HelpURL: https://cdn.harwin.com/pdfs/M20-781.pdf; CreatedBy/Date: Hubert Dube - 31/10/2020; VerifiedBy: Louis-Daniel Gaulin - 09/11/2020; Temperature: -40°C ~ 105°C; Package: SMD; Manufacturer #2: *; Assembly Type: SMD; Part Number #2: *; Part Number #1: M20-7810445; Cryo: UNKNOWN; Supplier 1: Digi-Key; Supplier Part Number 1: 952-3209-ND
footprint CON_HDR_M20-7810445R
pins: 1, 2, 3, 4, 5, 6, 7, 8

## CON_HDR_NUCLEO_F429ZI_PREC008DAAN-RC
designator J?, comment PREC008DAAN-RC
CON - Header 16 positions 2x8  0.100" - TH; Manufacturer #1: Sullins Connector Solutions; Current Rating: 3A; GRAMS Lib Spec: 2.8; Magnetic Material: Unknown; Polarized: No; Voltage Rating: 1000VAC; Assembly Type: TH; CreatedBy/Date: Louis-Daniel Gaulin / 21-10-2020; HelpURL: https://drawings-pdf.s3.amazonaws.com/11636.pdf; Manufacturer #2: *; Package: TH; Part Number #2: *; Power Max: *; Supplier 1: Digi-Key; Supplier Part Number 1: S2012EC-08-ND; Temperature: -55°C ~ 105°C; Tolerance: *; Value: *; Part Number #1: PREC008DAAN-RC; Cryo: UNKNOWN
footprint CON_HDR_NUCLEO_F429ZI_C008DAAN-RC
text: NUCLEO; F429ZI; Mating connector; 16 pins

## CON_HDR_NUCLEO_F429ZI_PREC010DAAN-RC
designator J?, comment PREC010DAAN-RC
CON - Header 20 positions 2x10  0.100" - TH; Manufacturer #1: Sullins Connector Solutions; Current Rating: 3A; GRAMS Lib Spec: 2.8; Magnetic Material: Unknown; Polarized: No; Voltage Rating: 1000VAC; Assembly Type: TH; CreatedBy/Date: Louis-Daniel Gaulin / 21-10-2020; HelpURL: https://drawings-pdf.s3.amazonaws.com/11636.pdf; Manufacturer #2: *; Package: TH; Part Number #2: *; Power Max: *; Supplier 1: Digi-Key; Supplier Part Number 1: S2012EC-10-ND; Temperature: -55°C ~ 105°C; Tolerance: *; Value: *; Part Number #1: PREC010DAAN-RC; Cryo: UNKNOWN
footprint CON_HDR_NUCLEO_F429ZI_C010DAAN-RC
text: NUCLEO; F429ZI; Mating connector; 20 pins

## CON_HDR_NUCLEO_F429ZI_PREC015DAAN-RC
designator J?, comment PREC015DAAN-RC
CON - Header 30 positions 2x15  0.100" - TH; Manufacturer #1: Sullins Connector Solutions; Current Rating: 3A; GRAMS Lib Spec: 2.8; Magnetic Material: Unknown; Polarized: No; Voltage Rating: 1000VAC; Assembly Type: TH; CreatedBy/Date: Louis-Daniel Gaulin / 21-10-2020; HelpURL: https://drawings-pdf.s3.amazonaws.com/11636.pdf; Manufacturer #2: *; Package: TH; Part Number #2: *; Power Max: *; Supplier 1: Digi-Key; Supplier Part Number 1: S2012EC-15-ND; Temperature: -55°C ~ 105°C; Tolerance: *; Value: *; Part Number #1: PREC015DAAN-RC; Cryo: UNKNOWN
footprint CON_HDR_NUCLEO_F429ZI_C015DAAN-RC
text: NUCLEO; F429ZI; Mating connector; 30 pins

## CON_HDR_NUCLEO_F429ZI_PREC017DAAN-RC
designator J?, comment PREC017DAAN-RC
CON - Header 34 positions 2x17  0.100" - TH; Manufacturer #1: Sullins Connector Solutions; Current Rating: 3A; GRAMS Lib Spec: 2.8; Magnetic Material: Unknown; Polarized: No; Voltage Rating: 1000VAC; Assembly Type: TH; CreatedBy/Date: Louis-Daniel Gaulin / 21-10-2020; HelpURL: https://drawings-pdf.s3.amazonaws.com/11636.pdf; Manufacturer #2: *; Package: TH; Part Number #2: *; Power Max: *; Supplier 1: Digi-Key; Supplier Part Number 1: S2012EC-17-ND; Temperature: -55°C ~ 105°C; Tolerance: *; Value: *; Part Number #1: PREC017DAAN-RC; Cryo: UNKNOWN
footprint CON_HDR_NUCLEO_F429ZI_C017DAAN-RC
text: NUCLEO; F429ZI; Mating connector; 34 pins

## CON_HDR_PH2-04-UA
designator J?, comment PH2-04-UA
CON - Header 4 positions 2x2  0.100" - TH; Manufacturer #1: Adam Tech; Current Rating: 3A; GRAMS Lib Spec: 2.8; Magnetic Material: Unknown; Polarized: Yes; Voltage Rating: 250 VAC; Assembly Type: TH; CreatedBy/Date: Louis-Daniel Gaulin / 30-07-2020; HelpURL: http://www.adam-tech.com/downloader.php?p=PH2-XX-UA.pdf; Manufacturer #2: *; Package: TH; Part Number #2: *; Power Max: *; Supplier 1: Digi-Key; Supplier Part Number 1: 2057-PH2-04-UA-ND; Temperature: -55°C ~ 105°C; Tolerance: *; Value: *; VerifiedBy: Philippe Arsenault/2020-11-06; Part Number #1: PH2-04-UA; Cryo: UNKNOWN
footprint CON_HDR_PH2-04-UA
pins: 1, 2, 3, 4
text: 100 mil; HDR

## CRY_CM7V-T1A-32.768KHZ-12.5PF-20PPM-TA-QC
designator X?, comment CM7V-T1A-32KHZ  value 32kHz  Assembly Note: DNI
CRY - 32.768KHZ tol:20ppm 12.5PF - 2-SMD; Manufacturer #1: Micro Crystal AG; Part Number #1: CM7V-T1A-32.768KHZ-12.5PF-20PPM-TA-QC; Magnetic Material: Unknown; Polarized: No; GRAMS Lib Spec: 2.8; Tolerance: ±20ppm; Assembly Type: SMD; Current Rating: *; Manufacturer #2: *; Note: *; Part Number #2: *; Package: 2-SMD, No Lead; Power Max: *; Voltage rating: *; Temperature: -40°C ~ 85°C; HelpURL: https://www.microcrystal.com/fileadmin/Media/Products/32kHz/Datasheet/CM7V-T1A.pdf; CreatedBy/Date: Hubert Dube - 21/07/20; VerifiedBy: Louis-Daniel Gaulin - 09/11/2020; Cryo: UNKNOWN; Supplier 1: Digi-Key; Supplier Part Number 1: 2195-CM7V-T1A-32.768KHZ-12.5PF-20PPM-TA-QCCT-ND
footprint CRY_CM7V-T1A-32.768KHZ-12.5PF-20PPM-TA-QC (CRY - 32.768KHZ tol:20ppm 12.5PF - 2-SMD)
pins: 1 In/Out, 2 Out/In

## CRY_FA-20H 40.0000MF10Z-K3
designator X?, comment FA-20H 40.0000MF10Z-K3  value 40MHz
CRY - 40MKHZ 10ppm 10PF - 4-SMD; Manufacturer #1: EPSON; Magnetic Material: Unknown; Polarized: No; GRAMS Lib Spec: 2.8; Assembly Type: SMD; Current Rating: *; Manufacturer #2: *; Note: *; Part Number #1: FA-20H 40.0000MF10Z-K3; Part Number #2: *; Package: 4 - SMD, No Lead; Power Max: *; Voltage rating: *; Temperature: -20°C ~ 75°C; HelpURL: https://support.epson.biz/td/api/doc_check.php?dl=brief_FA-20H&lang=en; CreatedBy/Date: Hubert Dube - 21/07/20; Tolerance: ±10ppm; VerifiedBy: Louis-Daniel Gaulin - 09/11/2020; Cryo: UNKNOWN; Supplier 1: Digi-Key; Supplier Part Number 1: SER4045CT-ND
footprint CRY_FA-20H 40.0000MF10Z-K3 (CRY - 40MKHZ 10ppm 10PF - 4-SMD)
pins: 1, 2, 3, 4

## DIO_ZENER_BZX84-B3V6,215
designator D?, comment BZX84-B3V6,215  value 3.6V
DIO - ZENER 3.6V 250mW - SOT-23; Manufacturer #1: Nexperia USA Inc.; Current Rating: 70mA; GRAMS Lib Spec: 2.8; Magnetic Material: Unknown; Polarized: Yes; Tolerance: 2%; Assembly Type: SMD; CreatedBy/Date: Louis-Daniel Gaulin / 30-07-2020; HelpURL: https://assets.nexperia.com/documents/data-sheet/BZX84_SER.pdf; Manufacturer #2: -; Note: -; Package: SOT-23; Part Number #1: BZX84-B3V6,215; Part Number #2: -; Power Max: 250mW; Temperature: -65°C ~ 150°C; VerifiedBy: Philippe Arsenault/2020-11-06; Voltage Rating: 3.6V; Supplier 1: Digi-Key; Supplier Part Number 1: 1727-6252-1-ND; Cryo: UNKNOWN
footprint DIO_ZENER_BZX84-B3V6,215
pins: 1 A, 2 NC hidden, 3 K

## FER_BLM15AG601SN1D
designator L?, comment value 600R@100Mhz  Current Rating: 300mA  Package: 0402  (hidden comment: BLM15AG601SN1D)
FER - FERRITE BEAD 600 OHM@100MHz - 0402; Manufacturer #1: Murata; GRAMS Lib Spec: 2.8; Magnetic Material: YES; Polarized: NO; Cryo: UNKNOWN; Tolerance: *; Voltage Rating: *; Power Max: *; HelpURL: https://www.murata.com/en-us/products/productdata/8796740059166/ENFA0018.pdf; CreatedBy/Date: Philippe Arsenault/2020-07-24; VerifiedBy: Louis-Daniel Gaulin / 2020-07-29; Temperature: -55°C ~ 125°C; Manufacturer #2: *; Note: *; Assembly Type: SMD; Part Number #2: *; Part Number #1: BLM15AG601SN1D; Supplier 1: Digi-Key; Supplier Part Number 1: 490-1006-1-ND
footprint FER_0402 (Ferrite - 0402)
pins: 1, 2

## IND_LQG15HS2N0S02D
designator L?, comment value 2nH  Current Rating: 900 mA  Package: 0402  (hidden comment: LQG15HS2N0S02D)
IND - 2nH 900mA 100mOhm  - 0402; Manufacturer #1: Murata Electronics; Tolerance: 0.3nH; GRAMS Lib Spec: 2.8; Magnetic Material: Unknown; Polarized: NO; Voltage Rating: *; Power Max: *; HelpURL: https://search.murata.co.jp/Ceramy/image/img/P02/JELF243B-0010.pdf; CreatedBy/Date: Hubert Dube  - 21/07/20; VerifiedBy: Louis-Daniel Gaulin - 09/11/2020; Temperature: -55°C ~ 125°C; Manufacturer #2: *; Assembly Type: SMD; Part Number #2: *; Part Number #1: LQG15HS2N0S02D; Cryo: UNKNOWN; Supplier 1: Digi-Key; Supplier Part Number 1: 490-6569-1-ND
footprint FER_0402 (Ferrite - 0402)
pins: 1, 2

## IND_LQG15WZ2N8S02D
designator L?, comment value 2.8nH  Current Rating: 900 mA  Package: 0402  (hidden comment: LQG15WZ2N8S02D)
IND - 2.8nH 900mA 80mOhm  - 0402; Manufacturer #1: Murata Electronics; Tolerance: 0.3nH; GRAMS Lib Spec: 2.8; Magnetic Material: Unknown; Polarized: NO; Voltage Rating: *; Power Max: *; HelpURL: https://search.murata.co.jp/Ceramy/image/img/P02/JELF243B-9117.pdf; CreatedBy/Date: Hubert Dube  - 3/10/20; VerifiedBy: Louis-Daniel Gaulin - 09/11/2020; Temperature: -55°C ~ 125°C; Manufacturer #2: *; Assembly Type: SMD; Part Number #2: *; Part Number #1: LQG15WZ2N8S02D; Cryo: UNKNOWN; Supplier 1: Digi-Key; Supplier Part Number 1: 490-LQG15WZ2N8S02DCT-ND
footprint FER_0402 (Ferrite - 0402)
pins: 1, 2

## LOG_FLIPFLOP_SN74LVC1G175DCKT
designator U?, comment SN74LVC1G175DCKT
LOG_FLIPFLOP - Single D flip-flop with Asynchronous clear - SOT-363; Manufacturer #1: Texas Instruments; Part Number #1: SN74LVC1G175DCKR; Voltage Rating: 1.65V ~ 5.5V; Current Rating: 100mA; GRAMS Lib Spec: 2.8; Magnetic Material: Unknown; Polarized: Yes; Cryo: No; Value: *; Tolerance: *; Power Max: *; HelpURL: https://www.ti.com/lit/ds/symlink/sn74lvc1g175.pdf?ts=1594769483993&ref_url=https%253A%252F%252Fwww.google.com%252F; CreatedBy/Date: Philippe Arsenault/21-07-2020; VerifiedBy: Louis-Daniel Gaulin / 03-10-2020; Temperature: -40°C ~ 125°C; Package: SOT-363; Manufacturer #2: *; Note: *; Assembly Type: SMD; Part Number #2: *; Supplier 1: Digi-Key; Supplier Part Number 1: 296-16998-1-ND
footprint LOG_FLIPFLOP_SN74LVC1G175DCKT (SOT23, 6-Leads, Body 2.00x2.10mm, Pitch 0.65mm, IPC Medium Density)
pins: 1 CLK, 2 GND, 3 D, 4 Q, 5 VCC, 6 ~{CLR}

## LOG_MUX_TMUX154EDGSR
designator U?, comment TMUX154EDGSR
LOG_MUX -  SWITCH SPDT DUAL 2:1 - 10-VSSOP; Manufacturer #1: Texas Instruments; Voltage Rating: 3V ~ 4.3V; Current Rating: 10uA; Power Max: 50uW; GRAMS Lib Spec: 2.8C; Magnetic Material: Unknown; Polarized: YES; Value: -; Tolerance: -; HelpURL: https://www.ti.com/lit/ds/symlink/tmux154e.pdf?HQS=TI-null-null-digikeymode-df-pf-null-wwe&ts=1602037764538; CreatedBy/Date: Louis-Daniel Gaulin / 06-10-2020; VerifiedBy: Philippe Arsenault/2020-11-06; Temperature: -40°C ~ 85°C; Package: 10-VSSOP; Manufacturer #2: -; Note: -; Assembly Type: SMD; Part Number #2: -; Part Number #1: TMUX154EDGSR; Supplier 1: Digi-Key; Supplier Part Number 1: 296-48347-1-ND
footprint LOG_MUX_TMUX154EDGSR (TSSOP, 10-Leads, Body 3.00x3.00mm, Pitch 0.50mm, IPC Medium Density)
pins: 1 SEL, 2 A0, 3 A1, 4 A, 5 GND, 6 B, 7 B1, 8 B0, 9 ~{EN}, 10 VCC
text: CTRL

## LOG_NAND_SN74LVC2G00DCUR
designator U?, comment SN74LVC2G00DCUR
LOG_NAND - GATE NAND 2CH 2-INP - 8-VSSOP; Manufacturer #1: Texas Instruments; Voltage Rating: 1.65V ~ 5.5V; Current Rating: +-100mA; GRAMS Lib Spec: 2.8; Magnetic Material: Unknown; Polarized: Yes; Cryo: No; Value: *; Tolerance: *; Power Max: *; HelpURL: https://www.ti.com/lit/ds/symlink/sn74lvc2g00.pdf?HQS=TI-null-null-alldatasheets-df-pf-SEP-wwe; CreatedBy/Date: Philippe Arsenault/21-07-2020; VerifiedBy: Louis-Daniel Gaulin / 23-07-2020; Temperature: -40°C ~ 125°C; Package: 8-VSSOP; Manufacturer #2: *; Note: *; Assembly Type: SMD; Part Number #2: *; Part Number #1: SN74LVC2G00DCUR; Supplier Part Number 1: 296-13258-1-ND; Supplier 1: Digi-key
footprint LOG_NAND_SN74LVC2G00DCUR (SN74LVC2G00)
pins: 1 1A, 2 1B, 3 2Y, 4 GND, 5 2A, 6 2B, 7 1Y, 8 VCC

## MEM_FLASH_MX25L3233FM1I-08Q
designator U?, comment MX25L3233FM1I-08Q
MEM - EFLASH 32Mb SPI 133MHZ - 8-SOIC; Manufacturer #1: Macronix; Value: 32Mb (8M x 4); Voltage Rating: 2.65V ~ 3.6V; GRAMS Lib Spec: 2.8; Magnetic Material: UNKNOWN; Polarized: YES; Tolerance: *; Current Rating: *; Power Max: *; HelpURL: https://www.macronix.com/Lists/Datasheet/Attachments/7426/MX25L3233F,%203V,%2032Mb,%20v1.6.pdf; CreatedBy/Date: Hubert Dube - 22/07/01; Temperature: -40°C ~ 85°C; Package: 8-WSON; Manufacturer #2: *; Note: *; Assembly Type: SMD; Part Number #2: *; Part Number #1: MX25L3233FM1I-08Q; Cryo: UNKNOWN; Supplier 1: Digi-Key; Supplier Part Number 1: 1092-1221-ND
footprint MEM_FLASH_MX25L3233FM1I-08Q (SOIC, 8-Leads, Body 4,90x3,90mm, Pitch 1,27mm, IPC Medium Density)
pins: 1 CS, 2 SO/SIO1, 3 WP/SIO2, 4 GND, 5 SI/SIO0, 6 SCLK, 7 HD/SIO3, 8 VCC

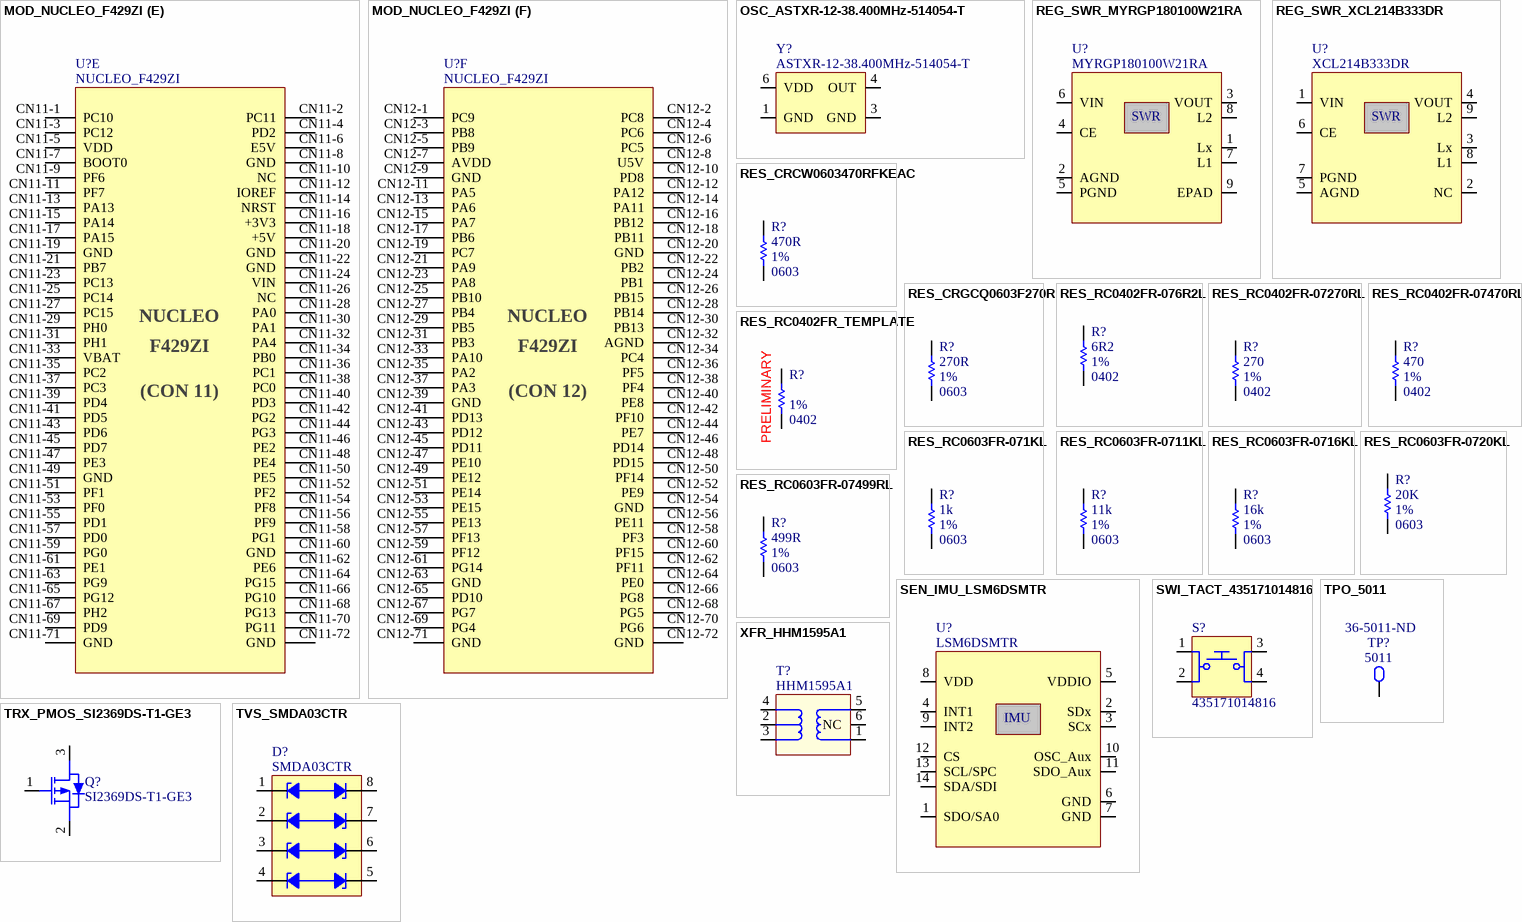
[diagram p2: symbols MOD_NUCLEO_F429ZI to XFR_HHM1595A1]

## MOD_NUCLEO_F429ZI
designator U?, comment NUCLEO_F429ZI
MOD - F429ZI MCU Nucleo development board - MOD; Manufacturer #1: STMicroelectronics; Part Number #1: NUCLEO-F429ZI; Voltage Rating: 3V3 ~ 12V; Current Rating: 800mA; Power Max: 9.6W; GRAMS Lib Spec: 2.8c; Magnetic Material: Unknown; Polarized: Yes; Value: -; Tolerance: -; HelpURL: https://www.st.com/resource/en/user_manual/dm00244518-stm32-nucleo144-boards-mb1137-stmicroelectronics.pdf; CreatedBy/Date: Louis-Daniel Gaulin; Temperature: *; Package: *; Manufacturer #2: *; Note: *; Assembly Type: TH; Part Number #2: -; Supplier 1: Digi-Key; Supplier Part Number 1: 497-16280-ND; Parameter 1: -; Cryo: UNKNOWN
footprint MOD_NUCLEO-F429ZI
part A pins: CN7-1 PC6, CN7-2 PB8, CN7-3 PB15, CN7-4 PB9, CN7-5 PB13, CN7-6 AVDD, CN7-7 PB12, CN7-8 GND, CN7-9 PA15, CN7-10 PA5, CN7-11 PC7, CN7-12 PA6, CN7-13 PB5, CN7-14 PA7, CN7-15 PB3, CN7-16 PD14, CN7-17 PA4, CN7-18 PD15, CN7-19 PB4, CN7-20 PF12
part B pins: CN8-1 NC, CN8-2 PC8, CN8-3 IOREF, CN8-4 PC9, CN8-5 NRST, CN8-6 PC10, CN8-7 +3V3, CN8-8 PC11, CN8-9 +5V, CN8-10 PC12, CN8-11 GND, CN8-12 PD2, CN8-13 GND, CN8-14 PG2, CN8-15 VIN, CN8-16 PG3
part C pins: CN9-1 PA3, CN9-2 PD7, CN9-3 PC0, CN9-4 PD6, CN9-5 PC3, CN9-6 PD5, CN9-7 PF3, CN9-8 PD4, CN9-9 PF5, CN9-10 PD3, CN9-11 PF10, CN9-12 GND, CN9-13 NC, CN9-14 PE2, CN9-15 PA7, CN9-16 PE4, CN9-17 PF2, CN9-18 PE5, CN9-19 PH1, CN9-20 PE6, CN9-21 PH0, CN9-22 PE3, CN9-23 GND, CN9-24 PF8, CN9-25 PD0, CN9-26 PF7, CN9-27 PD1, CN9-28 PF9, CN9-29 PG0, CN9-30 PG1
part D pins: CN10-1 AVDD, CN10-2 PF13, CN10-3 AGND, CN10-4 PE9, CN10-5 GND, CN10-6 PE11, CN10-7 PB1, CN10-8 PF14, CN10-9 PC2, CN10-10 PE13, CN10-11 PF4, CN10-12 PF15, CN10-13 PB6, CN10-14 PG14, CN10-15 PB2, CN10-16 PG9, CN10-17 GND, CN10-18 PE8, CN10-19 PD13, CN10-20 PE7, CN10-21 PD12, CN10-22 GND, CN10-23 PD11, CN10-24 PE10, CN10-25 PE2, CN10-26 PE12, CN10-27 GND, CN10-28 PE14, CN10-29 PA0, CN10-30 PE15, CN10-31 PB0, CN10-32 PB10, CN10-33 PE0, CN10-34 PB11
part E pins: CN11-1 PC10, CN11-2 PC11, CN11-3 PC12, CN11-4 PD2, CN11-5 VDD, CN11-6 E5V, CN11-7 BOOT0, CN11-8 GND, CN11-9 PF6, CN11-10 NC, CN11-11 PF7, CN11-12 IOREF, CN11-13 PA13, CN11-14 NRST, CN11-15 PA14, CN11-16 +3V3, CN11-17 PA15, CN11-18 +5V, CN11-19 GND, CN11-20 GND, CN11-21 PB7, CN11-22 GND, CN11-23 PC13, CN11-24 VIN, CN11-25 PC14, CN11-26 NC, CN11-27 PC15, CN11-28 PA0, CN11-29 PH0, CN11-30 PA1, CN11-31 PH1, CN11-32 PA4, CN11-33 VBAT, CN11-34 PB0, CN11-35 PC2, CN11-36 PC1, CN11-37 PC3, CN11-38 PC0, CN11-39 PD4, CN11-40 PD3, CN11-41 PD5, CN11-42 PG2, CN11-43 PD6, CN11-44 PG3, CN11-45 PD7, CN11-46 PE2, CN11-47 PE3, CN11-48 PE4, CN11-49 GND, CN11-50 PE5, CN11-51 PF1, CN11-52 PF2, CN11-53 PF0, CN11-54 PF8, CN11-55 PD1, CN11-56 PF9, CN11-57 PD0, CN11-58 PG1, CN11-59 PG0, CN11-60 GND, CN11-61 PE1, CN11-62 PE6, CN11-63 PG9, CN11-64 PG15, CN11-65 PG12, CN11-66 PG10, CN11-67 PH2, CN11-68 PG13, CN11-69 PD9, CN11-70 PG11, CN11-71 GND, CN11-72 GND
part F pins: CN12-1 PC9, CN12-2 PC8, CN12-3 PB8, CN12-4 PC6, CN12-5 PB9, CN12-6 PC5, CN12-7 AVDD, CN12-8 U5V, CN12-9 GND, CN12-10 PD8, CN12-11 PA5, CN12-12 PA12, CN12-13 PA6, CN12-14 PA11, CN12-15 PA7, CN12-16 PB12, CN12-17 PB6, CN12-18 PB11, CN12-19 PC7, CN12-20 GND, CN12-21 PA9, CN12-22 PB2, CN12-23 PA8, CN12-24 PB1, CN12-25 PB10, CN12-26 PB15, CN12-27 PB4, CN12-28 PB14, CN12-29 PB5, CN12-30 PB13, CN12-31 PB3, CN12-32 AGND, CN12-33 PA10, CN12-34 PC4, CN12-35 PA2, CN12-36 PF5, CN12-37 PA3, CN12-38 PF4, CN12-39 GND, CN12-40 PE8, CN12-41 PD13, CN12-42 PF10, CN12-43 PD12, CN12-44 PE7, CN12-45 PD11, CN12-46 PD14, CN12-47 PE10, CN12-48 PD15, CN12-49 PE12, CN12-50 PF14, CN12-51 PE14, CN12-52 PE9, CN12-53 PE15, CN12-54 GND, CN12-55 PE13, CN12-56 PE11, CN12-57 PF13, CN12-58 PF3, CN12-59 PF12, CN12-60 PF15, CN12-61 PG14, CN12-62 PF11, CN12-63 GND, CN12-64 PE0, CN12-65 PD10, CN12-66 PG8, CN12-67 PG7, CN12-68 PG5, CN12-69 PG4, CN12-70 PG6, CN12-71 GND, CN12-72 GND
part A text: NUCLEO; F429ZI; (CON 7)
part B text: NUCLEO; F429ZI; (CON 8)
part C text: NUCLEO; F429ZI; (CON 9)
part D text: NUCLEO; F429ZI; (CON 10)
part E text: NUCLEO; F429ZI; (CON 11)
part F text: NUCLEO; F429ZI; (CON 12)

## OSC_ASTXR-12-38.400MHz-514054-T
designator Y?, comment ASTXR-12-38.400MHz-514054-T
OSC - XTAL - ASTXR-12-38.400MHz-514054-T - 38.4MHz TXCO - Clipped sine - 3V3 +-0.5ppm UWB application; Manufacturer #1: Abracon LLC; Voltage Rating: 3.3V; Current Rating: 2mA; GRAMS Lib Spec: 2.8; Magnetic Material: Unknown; Polarized: Yes; Cryo: No; Value: 38.4MHz; Tolerance: *; Power Max: *; HelpURL: https://4donline.ihs.com/images/VipMasterIC/IC/ABRC/ABRC-S-A0001399357/ABRC-S-A0001399357-1.pdf?hkey=52A5661711E402568146F3353EA87419; CreatedBy/Date: Philippe Arsenault/18-07-2020; VerifiedBy: Louis-Daniel Gaulin / 03-10-2020; Temperature: -40°C ~ 85°C; Package: 6-SMD; Manufacturer #2: Rakon; Note: *; Assembly Type: SMT; Part Number #2: *; Part Number #1: ASTXR-12-38.400MHz-514054-T; Supplier 1: Digi-Key; Supplier Part Number 1: 535-13192-1-ND
footprint OSC_ASTXR-12-38.400MHZ-514054-T
pins: 1 GND, 3 GND, 4 OUT, 6 VDD

## REG_SWR_MYRGP180100W21RA
designator U?, comment MYRGP180100W21RA
REG_DC DC CONVERTER 1.8V 1.8W_8-PowerTDFN; Manufacturer #1: Murata Power Solutions Inc.; Voltage Rating: 2.5V to 5.5V IN; Current Rating: 1A; GRAMS Lib Spec: 2.8; Magnetic Material: Unknown; Polarized: Yes; Value: 1.8V; Tolerance: *; Power Max: *; HelpURL: https://www.murata.com/products/productdata/8807036026910/MYRGP-b-w.pdf?1583754814000; CreatedBy/Date: Louis-Daniel Gaulin / 21-07-2020; VerifiedBy: Philippe Arsenault/2020-11-06; Temperature: -40°C~105°C; Package: 8-PowerTDFN; Manufacturer #2: *; Note: *; Assembly Type: SMD; Part Number #2: *; Part Number #1: MYRGP180100W21RA; Supplier 1: Digi-Key; Supplier Part Number 1: 811-MYRGP180100W21RACT-ND; Cryo: UNKNOWN
footprint REG_SWR_MYRGP180100W21RA
pins: 1 Lx, 2 AGND, 3 VOUT, 4 CE, 5 PGND, 6 VIN, 7 L1, 8 L2, 9 EPAD
text: SWR

## REG_SWR_XCL214B333DR
designator U?, comment XCL214B333DR
REG_DC DC CONVERTER 3.3V 5W_9-PowerTFQFN; Manufacturer #1: Torex Semiconductor Ltd; Voltage Rating: 2.7V to 5.5V IN; Current Rating: 1.5A; GRAMS Lib Spec: 2.8; Magnetic Material: Unknown; Polarized: Yes; Value: 3.3V; Tolerance: *; Power Max: *; HelpURL: https://www.torexsemi.com/file/xcl213/XCL213-XCL214.pdf; CreatedBy/Date: Louis-Daniel Gaulin / 21-07-2020; VerifiedBy: Philippe Arsenault/2020-11-06; Temperature: -40°C ~ 105°C; Package: 9-PowerTFQFN; Manufacturer #2: *; Note: *; Assembly Type: SMD; Part Number #2: *; Part Number #1: XCL214B333DR; Supplier 1: Digi-Key; Supplier Part Number 1: 893-1218-1-ND; Cryo: UNKNOWN
footprint REG_SWR_XCL214B333DR
pins: 1 VIN, 2 NC, 3 Lx, 4 VOUT, 5 AGND, 6 CE, 7 PGND, 8 L1, 9 L2
text: SWR

## RES_CRCW0603470RFKEAC
designator R?, comment value 470R  Tolerance: 1%  Package: 0603  (hidden comment: CRCW0603470RFKEAC)
RES - 470R 1% 1/10W - 0603; Manufacturer #1: Vishay Dale; GRAMS Lib Spec: 2.8; Magnetic Material: Unknown; Polarized: No; Voltage Rating: 75V; Assembly Type: SMD; CreatedBy/Date: Philippe Arsenault/2020-07-14; Current Rating: *; HelpURL: https://www.vishay.com/docs/28773/crcwce3.pdf; Manufacturer #2: *; Note: *; Part Number #1: CRCW0603470RFKEAC; Part Number #2: *; Power Max: 1/10W; Temperature: -55°C ~ 155°C; VerifiedBy: Louis-Daniel Gaulin / 2020-07-22; Supplier 1: Digi-Key; Supplier Part Number 1: 541-4038-1-ND
footprint RES_0603 (Resistor - 0603)
pins: 1, 2

## RES_CRGCQ0603F270R
designator R?, comment value 270R  Tolerance: 1%  Package: 0603  (hidden comment: CRGCQ0603F270R)
RES - 270R 1% 1/10W - 0603; Manufacturer #1: TE Connectivity Passive Product; GRAMS Lib Spec: 2.8; Magnetic Material: Unknown; Polarized: No; Voltage Rating: 75V; Assembly Type: SMD; CreatedBy/Date: Philippe Arsenault/2020-07-22; Current Rating: *; HelpURL: https://www.te.com/commerce/DocumentDelivery/DDEController?Action=srchrtrv&DocNm=1773204-3&DocType=DS&DocLang=English; Manufacturer #2: *; Note: *; Part Number #1: CRGCQ0603F270R; Part Number #2: *; Power Max: 1/10W; Temperature: -55°C ~ 155°C; VerifiedBy: Louis-Daniel Gaulin / 2020-07-23; Supplier 1: Digi-Key; Supplier Part Number 1: A129681CT-ND
footprint RES_0603 (Resistor - 0603)
pins: 1, 2

## RES_RC0402FR-076R2L
designator R?, comment value 6R2  Tolerance: 1%  Package: 0402  (hidden comment: RC0402FR-076R2L)
RES - 6.2R 1% 1/16W - 0402; Manufacturer #1: Yageo; Part Number #1: RC0402JR-076R2L; GRAMS Lib Spec: 2.8c; Magnetic Material: Unknown; Polarized: No; Voltage Rating: 50V; Assembly Type: SMD; CreatedBy/Date: Hubert Dubé 04/10/2020; Current Rating: *; HelpURL: https://www.yageo.com/upload/media/product/productsearch/datasheet/rchip/PYu-RC_Group_51_RoHS_L_11.pdf; Manufacturer #2: *; Note: *; Part Number #2: *; Power Max: 1/16W; Temperature: -55°C ~ 155°C; VerifiedBy: Louis-Daniel Gaulin - 09/11/2020; Supplier 1: Digi-Key; Supplier Part Number 1: 13-RC0402FR-076R2LCT-ND
footprint RES_0402 (Resistor - 0402)
pins: 1, 2

## RES_RC0402FR-07270RL
designator R?, comment value 270  Tolerance: 1%  Package: 0402  (hidden comment: RC0402FR-07270RL)
RES - 270R 1% 1/16W - 0402; Manufacturer #1: Yageo; GRAMS Lib Spec: 2.8c; Magnetic Material: Unknown; Polarized: No; Voltage Rating: 50V; Assembly Type: SMD; CreatedBy/Date: Philippe Arsenault 2020-07-24; Current Rating: *; HelpURL: https://www.yageo.com/upload/media/product/productsearch/datasheet/rchip/PYu-RC_Group_51_RoHS_L_10.pdf; Manufacturer #2: *; Note: *; Part Number #1: RC0402FR-07270RL; Part Number #2: *; Power Max: 1/16W; Temperature: -55°C ~ 155°C; VerifiedBy: Louis-Daniel Gaulin / 03-10-2020; Supplier 1: Digi-Key; Supplier Part Number 1: 311-270LRCT-ND
footprint FER_0402 (Ferrite - 0402)
pins: 1, 2

## RES_RC0402FR-07470RL
designator R?, comment value 470  Tolerance: 1%  Package: 0402  (hidden comment: RC0402FR-07470RL)
RES - 470R 1% 1/16W - 0402; Manufacturer #1: Yageo; GRAMS Lib Spec: 2.8c; Magnetic Material: Unknown; Polarized: No; Voltage Rating: 50V; Assembly Type: SMD; CreatedBy/Date: Philippe Arsenault 2020-07-24; Current Rating: *; HelpURL: https://www.yageo.com/upload/media/product/productsearch/datasheet/rchip/PYu-RC_Group_51_RoHS_L_10.pdf; Manufacturer #2: *; Note: *; Part Number #1: RC0402FR-07470RL; Part Number #2: *; Power Max: 1/16W; Temperature: -55°C ~ 155°C; VerifiedBy: Louis-Daniel Gaulin / 03-10-2020; Supplier 1: Digi-Key; Supplier Part Number 1: 311-470LRCT-ND
footprint RES_0402 (Resistor - 0402)
pins: 1, 2